# Altium footprint library DIODOS.PcbLib: 35 footprints (part 2 of 3)
Each footprint in its own frame and in the unit in brackets; x right, y up, seen from the top. Pads: shape width x height; smd on the part's side, far side on the other; paste and mask are expansions set on the pad; w line width, h text height; cw(c..) or ccw(c..) is an arc to the next point about the centre after c.
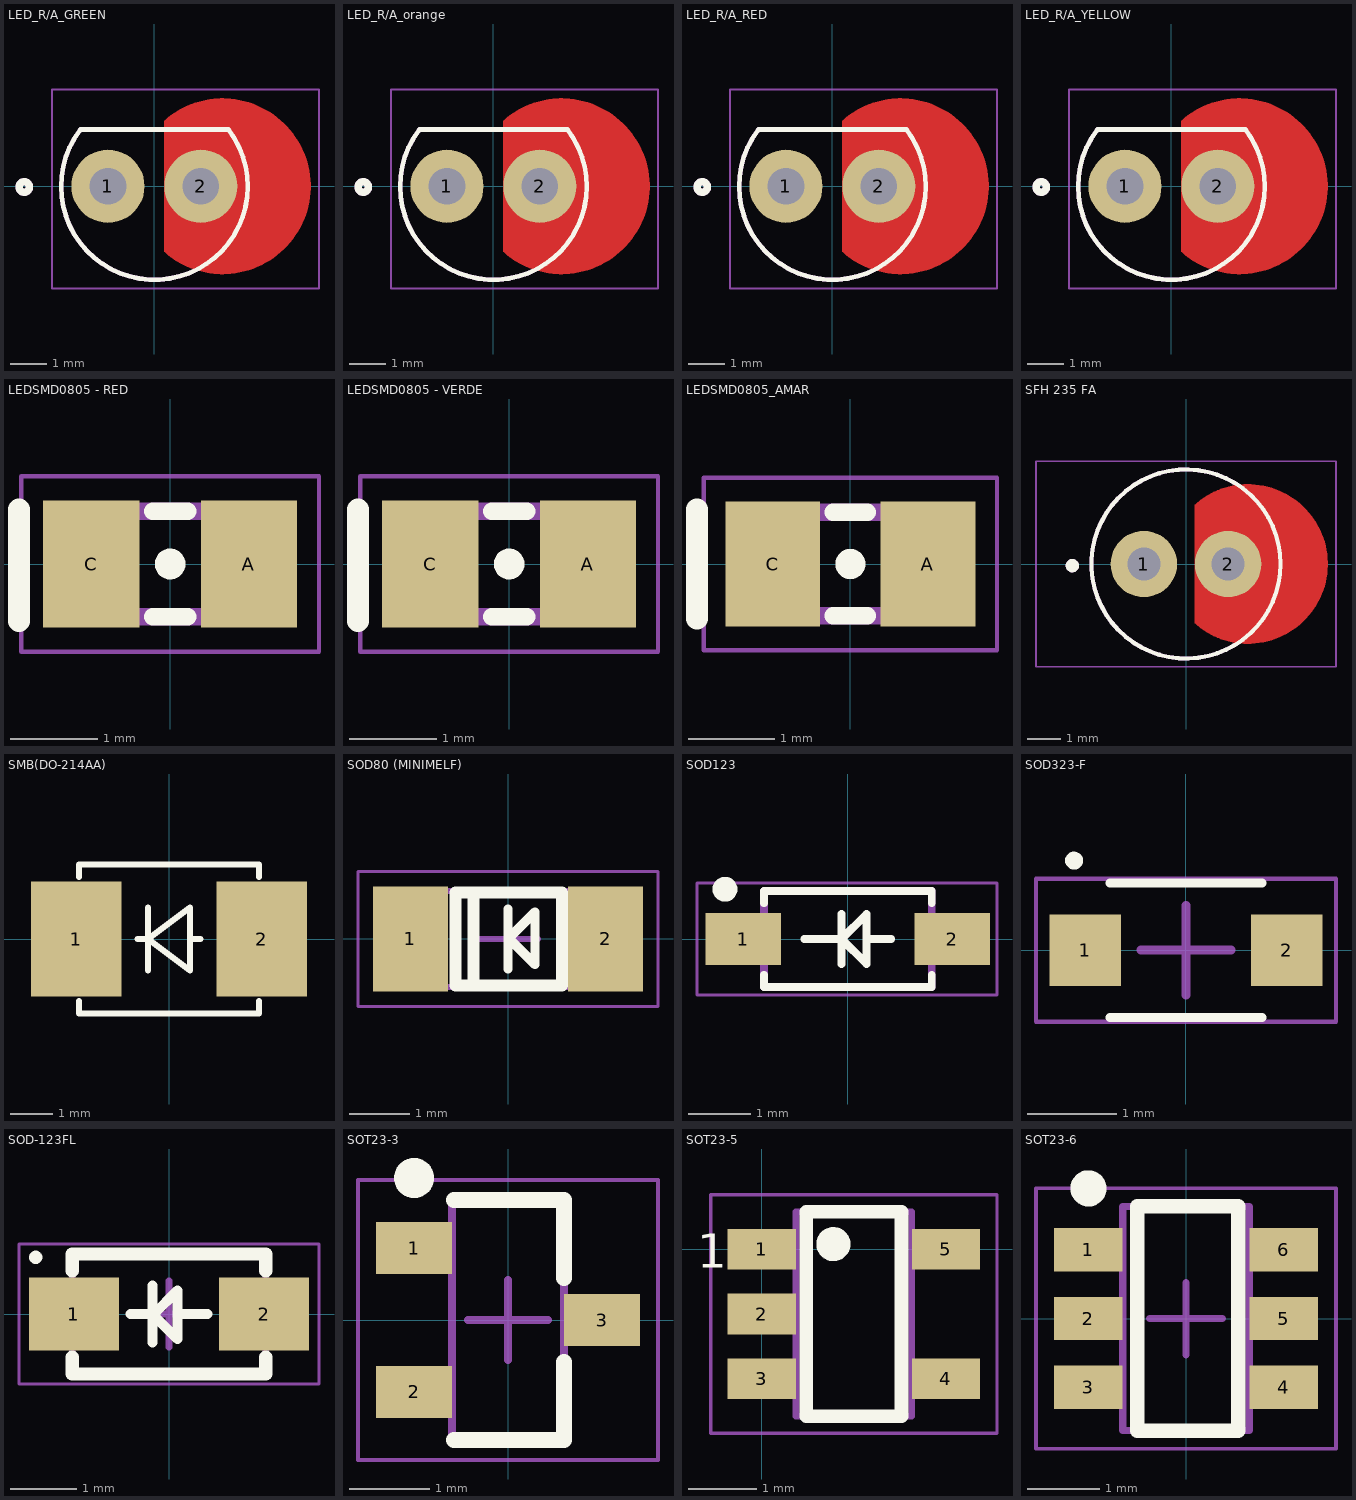
[diagram p1: the footprints below, top view; thin cyan lines are the x and y axes]

## LED_R/A_GREEN [mm]
pads (2):
  round 2 hole 1: 1(-1.27,0) 2(1.27,0)
Top Layer:
  region: 0.27,0.06 0.27,1.79 0.303,1.82 0.347,1.858 0.393,1.895 0.439,1.93 0.486,1.965 0.534,1.998 0.583,2.03 0.632,2.061 0.683,2.091 0.734,2.119 0.785,2.147 0.838,2.172 0.891,2.197 0.945,2.22 0.999,2.242 1.054,2.262 1.109,2.282 1.164,2.299 1.221,2.316 1.277,2.33 1.334,2.344 1.391,2.356 1.449,2.367 1.506,2.376 1.564,2.383 1.622,2.39 1.681,2.395 1.739,2.398 1.797,2.4 1.856,2.4 1.87,2.4 1.895,2.4 1.966,2.399 2.09,2.39 2.214,2.375 2.337,2.354 2.459,2.326 2.579,2.292 2.697,2.252 2.812,2.205 2.926,2.153 3.036,2.095 3.144,2.032 3.247,1.962 3.348,1.888 3.444,1.809 3.536,1.724 3.623,1.635 3.706,1.542 3.784,1.444 3.856,1.343 3.923,1.238 3.985,1.13 4.041,1.018 4.091,0.904 4.136,0.787 4.174,0.669 4.206,0.548 4.231,0.426 4.251,0.303 4.264,0.179 4.27,0.054 4.27,0 4.27,-0.054 4.264,-0.179 4.251,-0.303 4.231,-0.426 4.206,-0.548 4.174,-0.669 4.136,-0.787 4.091,-0.904 4.041,-1.018 3.985,-1.13 3.923,-1.238 3.856,-1.343 3.784,-1.444 3.706,-1.542 3.623,-1.635 3.536,-1.724 3.444,-1.809 3.348,-1.888 3.247,-1.962 3.144,-2.032 3.036,-2.095 2.926,-2.153 2.812,-2.205 2.697,-2.252 2.579,-2.292 2.459,-2.326 2.337,-2.354 2.214,-2.375 2.09,-2.39 1.966,-2.399 1.895,-2.4 1.795,-2.4 1.87,-2.4 1.856,-2.4 1.797,-2.4 1.739,-2.398 1.681,-2.395 1.622,-2.39 1.564,-2.383 1.506,-2.376 1.449,-2.367 1.391,-2.356 1.334,-2.344 1.277,-2.33 1.221,-2.316 1.164,-2.299 1.109,-2.282 1.054,-2.262 0.999,-2.242 0.945,-2.22 0.891,-2.197 0.838,-2.172 0.785,-2.147 0.734,-2.119 0.683,-2.091 0.632,-2.061 0.583,-2.03 0.534,-1.998 0.486,-1.965 0.439,-1.93 0.393,-1.895 0.347,-1.858 0.303,-1.82 0.27,-1.79
Top Overlay:
  circle w0.2: c-3.56,-0.02 r0.143
  lines w0.127: -2.038,1.532 ccw(c0,-0.004) 2.038,1.532 ; -2.025,1.55 2.025,1.55
Top Solder:
  circle w1: c-1.27,0 r0.5
  circle w1: c1.27,0 r0.5
Bottom Solder:
  circle w1: c1.27,0 r0.5
  circle w1: c-1.27,0 r0.5
Mechanical 13:
  circle w0.2: c-3.56,-0.02 r0.143
  circle w0.2: c-3.56,-0.02 r0.143
  region: 0.27,0.1 0.27,0 0.27,-0.1 0.29,-0.23 0.31,-0.31 0.37,-0.45
  region: 0.27,0.1 0.27,0 0.27,-0.1 0.29,-0.23 0.31,-0.31 0.37,-0.45
  lines w0.127: -2.038,1.532 ccw(c0,-0.004) 2.038,1.532 cw(c0,-0.004) -2.038,1.532 ; -2.025,1.55 2.025,1.55 -2.025,1.55
Mechanical 15:
  lines w0.05: -2.8,-2.8 -2.8,2.65 4.5,2.65 4.5,-2.8 -2.8,-2.8
3D body: height 9, standoff -4, extent -2.8,2.675 -2.8,2.675
3D body "LED 5mm, Green, Thru-hole, Right Angle PCB 1.stp": height 5.95, standoff -3.2, extent -3.124,-0.225 2.275,10.725

## LED_R/A_orange [mm]
pads (2):
  round 2 hole 1: 1(-1.27,0) 2(1.27,0)
Top Layer:
  region: 0.27,0.06 0.27,1.79 0.303,1.82 0.347,1.858 0.393,1.895 0.439,1.93 0.486,1.965 0.534,1.998 0.583,2.03 0.632,2.061 0.683,2.091 0.734,2.119 0.785,2.147 0.838,2.172 0.891,2.197 0.945,2.22 0.999,2.242 1.054,2.262 1.109,2.282 1.164,2.299 1.221,2.316 1.277,2.33 1.334,2.344 1.391,2.356 1.449,2.367 1.506,2.376 1.564,2.383 1.622,2.39 1.681,2.395 1.739,2.398 1.797,2.4 1.856,2.4 1.87,2.4 1.895,2.4 1.966,2.399 2.09,2.39 2.214,2.375 2.337,2.354 2.459,2.326 2.579,2.292 2.697,2.252 2.812,2.205 2.926,2.153 3.036,2.095 3.144,2.032 3.247,1.962 3.348,1.888 3.444,1.809 3.536,1.724 3.623,1.635 3.706,1.542 3.784,1.444 3.856,1.343 3.923,1.238 3.985,1.13 4.041,1.018 4.091,0.904 4.136,0.787 4.174,0.669 4.206,0.548 4.231,0.426 4.251,0.303 4.264,0.179 4.27,0.054 4.27,0 4.27,-0.054 4.264,-0.179 4.251,-0.303 4.231,-0.426 4.206,-0.548 4.174,-0.669 4.136,-0.787 4.091,-0.904 4.041,-1.018 3.985,-1.13 3.923,-1.238 3.856,-1.343 3.784,-1.444 3.706,-1.542 3.623,-1.635 3.536,-1.724 3.444,-1.809 3.348,-1.888 3.247,-1.962 3.144,-2.032 3.036,-2.095 2.926,-2.153 2.812,-2.205 2.697,-2.252 2.579,-2.292 2.459,-2.326 2.337,-2.354 2.214,-2.375 2.09,-2.39 1.966,-2.399 1.895,-2.4 1.795,-2.4 1.87,-2.4 1.856,-2.4 1.797,-2.4 1.739,-2.398 1.681,-2.395 1.622,-2.39 1.564,-2.383 1.506,-2.376 1.449,-2.367 1.391,-2.356 1.334,-2.344 1.277,-2.33 1.221,-2.316 1.164,-2.299 1.109,-2.282 1.054,-2.262 0.999,-2.242 0.945,-2.22 0.891,-2.197 0.838,-2.172 0.785,-2.147 0.734,-2.119 0.683,-2.091 0.632,-2.061 0.583,-2.03 0.534,-1.998 0.486,-1.965 0.439,-1.93 0.393,-1.895 0.347,-1.858 0.303,-1.82 0.27,-1.79
Top Overlay:
  circle w0.2: c-3.56,-0.02 r0.143
  lines w0.127: -2.038,1.532 ccw(c0,-0.004) 2.038,1.532 ; -2.025,1.55 2.025,1.55
Top Solder:
  circle w1: c1.27,0 r0.5
  circle w1: c-1.27,0 r0.5
Bottom Solder:
  circle w1: c-1.27,0 r0.5
  circle w1: c1.27,0 r0.5
Mechanical 13:
  circle w0.2: c-3.56,-0.02 r0.143
  circle w0.2: c-3.56,-0.02 r0.143
  region: 0.27,0.1 0.27,0 0.27,-0.1 0.29,-0.23 0.31,-0.31 0.37,-0.45
  region: 0.27,0.1 0.27,0 0.27,-0.1 0.29,-0.23 0.31,-0.31 0.37,-0.45
  lines w0.127: -2.038,1.532 ccw(c0,-0.004) 2.038,1.532 cw(c0,-0.004) -2.038,1.532 ; -2.025,1.55 2.025,1.55 -2.025,1.55
Mechanical 15:
  lines w0.05: -2.8,-2.8 4.5,-2.8 4.5,2.65 -2.8,2.65 -2.8,-2.8
3D body "LED 5mm, Orange, Thru-hole, Right Angle PCB 1.stp": height 5.95, standoff -3.2, extent -3.063,-0.225 2.337,10.725
3D body: height 9, standoff -4, extent -2.8,2.675 -2.8,2.675

## LED_R/A_RED [mm]
pads (2):
  round 2 hole 1: 1(-1.27,0) 2(1.27,0)
Top Layer:
  region: 0.27,0.06 0.27,1.79 0.303,1.82 0.347,1.858 0.393,1.895 0.439,1.93 0.486,1.965 0.534,1.998 0.583,2.03 0.632,2.061 0.683,2.091 0.734,2.119 0.785,2.147 0.838,2.172 0.891,2.197 0.945,2.22 0.999,2.242 1.054,2.262 1.109,2.282 1.164,2.299 1.221,2.316 1.277,2.33 1.334,2.344 1.391,2.356 1.449,2.367 1.506,2.376 1.564,2.383 1.622,2.39 1.681,2.395 1.739,2.398 1.797,2.4 1.856,2.4 1.87,2.4 1.895,2.4 1.966,2.399 2.09,2.39 2.214,2.375 2.337,2.354 2.459,2.326 2.579,2.292 2.697,2.252 2.812,2.205 2.926,2.153 3.036,2.095 3.144,2.032 3.247,1.962 3.348,1.888 3.444,1.809 3.536,1.724 3.623,1.635 3.706,1.542 3.784,1.444 3.856,1.343 3.923,1.238 3.985,1.13 4.041,1.018 4.091,0.904 4.136,0.787 4.174,0.669 4.206,0.548 4.231,0.426 4.251,0.303 4.264,0.179 4.27,0.054 4.27,0 4.27,-0.054 4.264,-0.179 4.251,-0.303 4.231,-0.426 4.206,-0.548 4.174,-0.669 4.136,-0.787 4.091,-0.904 4.041,-1.018 3.985,-1.13 3.923,-1.238 3.856,-1.343 3.784,-1.444 3.706,-1.542 3.623,-1.635 3.536,-1.724 3.444,-1.809 3.348,-1.888 3.247,-1.962 3.144,-2.032 3.036,-2.095 2.926,-2.153 2.812,-2.205 2.697,-2.252 2.579,-2.292 2.459,-2.326 2.337,-2.354 2.214,-2.375 2.09,-2.39 1.966,-2.399 1.895,-2.4 1.795,-2.4 1.87,-2.4 1.856,-2.4 1.797,-2.4 1.739,-2.398 1.681,-2.395 1.622,-2.39 1.564,-2.383 1.506,-2.376 1.449,-2.367 1.391,-2.356 1.334,-2.344 1.277,-2.33 1.221,-2.316 1.164,-2.299 1.109,-2.282 1.054,-2.262 0.999,-2.242 0.945,-2.22 0.891,-2.197 0.838,-2.172 0.785,-2.147 0.734,-2.119 0.683,-2.091 0.632,-2.061 0.583,-2.03 0.534,-1.998 0.486,-1.965 0.439,-1.93 0.393,-1.895 0.347,-1.858 0.303,-1.82 0.27,-1.79
Top Overlay:
  circle w0.2: c-3.56,-0.02 r0.143
  lines w0.127: -2.038,1.532 ccw(c0,-0.004) 2.038,1.532 ; -2.025,1.55 2.025,1.55
Top Solder:
  circle w1: c-1.27,0 r0.5
  circle w1: c1.27,0 r0.5
Bottom Solder:
  circle w1: c1.27,0 r0.5
  circle w1: c-1.27,0 r0.5
Mechanical 13:
  circle w0.2: c-3.56,-0.02 r0.143
  circle w0.2: c-3.56,-0.02 r0.143
  region: 0.27,0.1 0.27,0 0.27,-0.1 0.29,-0.23 0.31,-0.31 0.37,-0.45
  region: 0.27,0.1 0.27,0 0.27,-0.1 0.29,-0.23 0.31,-0.31 0.37,-0.45
  lines w0.127: -2.038,1.532 ccw(c0,-0.004) 2.038,1.532 cw(c0,-0.004) -2.038,1.532 ; -2.025,1.55 2.025,1.55 -2.025,1.55
Mechanical 15:
  lines w0.05: -2.8,-2.8 -2.8,2.65 4.5,2.65 4.5,-2.8 -2.8,-2.8
3D body: height 9, standoff -4, extent -2.8,2.675 -2.8,2.675
3D body "LED 5mm, Red, Thru-hole, Right Angle PCB 1.stp": height 5.95, standoff -3.2, extent -3,-0.225 2.4,10.725

## LED_R/A_YELLOW [mm]
pads (2):
  round 2 hole 1: 1(-1.27,0) 2(1.27,0)
Top Layer:
  region: 0.27,0.06 0.27,1.79 0.303,1.82 0.347,1.858 0.393,1.895 0.439,1.93 0.486,1.965 0.534,1.998 0.583,2.03 0.632,2.061 0.683,2.091 0.734,2.119 0.785,2.147 0.838,2.172 0.891,2.197 0.945,2.22 0.999,2.242 1.054,2.262 1.109,2.282 1.164,2.299 1.221,2.316 1.277,2.33 1.334,2.344 1.391,2.356 1.449,2.367 1.506,2.376 1.564,2.383 1.622,2.39 1.681,2.395 1.739,2.398 1.797,2.4 1.856,2.4 1.87,2.4 1.895,2.4 1.966,2.399 2.09,2.39 2.214,2.375 2.337,2.354 2.459,2.326 2.579,2.292 2.697,2.252 2.812,2.205 2.926,2.153 3.036,2.095 3.144,2.032 3.247,1.962 3.348,1.888 3.444,1.809 3.536,1.724 3.623,1.635 3.706,1.542 3.784,1.444 3.856,1.343 3.923,1.238 3.985,1.13 4.041,1.018 4.091,0.904 4.136,0.787 4.174,0.669 4.206,0.548 4.231,0.426 4.251,0.303 4.264,0.179 4.27,0.054 4.27,0 4.27,-0.054 4.264,-0.179 4.251,-0.303 4.231,-0.426 4.206,-0.548 4.174,-0.669 4.136,-0.787 4.091,-0.904 4.041,-1.018 3.985,-1.13 3.923,-1.238 3.856,-1.343 3.784,-1.444 3.706,-1.542 3.623,-1.635 3.536,-1.724 3.444,-1.809 3.348,-1.888 3.247,-1.962 3.144,-2.032 3.036,-2.095 2.926,-2.153 2.812,-2.205 2.697,-2.252 2.579,-2.292 2.459,-2.326 2.337,-2.354 2.214,-2.375 2.09,-2.39 1.966,-2.399 1.895,-2.4 1.795,-2.4 1.87,-2.4 1.856,-2.4 1.797,-2.4 1.739,-2.398 1.681,-2.395 1.622,-2.39 1.564,-2.383 1.506,-2.376 1.449,-2.367 1.391,-2.356 1.334,-2.344 1.277,-2.33 1.221,-2.316 1.164,-2.299 1.109,-2.282 1.054,-2.262 0.999,-2.242 0.945,-2.22 0.891,-2.197 0.838,-2.172 0.785,-2.147 0.734,-2.119 0.683,-2.091 0.632,-2.061 0.583,-2.03 0.534,-1.998 0.486,-1.965 0.439,-1.93 0.393,-1.895 0.347,-1.858 0.303,-1.82 0.27,-1.79
Top Overlay:
  circle w0.2: c-3.56,-0.02 r0.143
  lines w0.127: -2.038,1.532 ccw(c0,-0.004) 2.038,1.532 ; -2.025,1.55 2.025,1.55
Top Solder:
  circle w1: c1.27,0 r0.5
  circle w1: c-1.27,0 r0.5
Bottom Solder:
  circle w1: c-1.27,0 r0.5
  circle w1: c1.27,0 r0.5
Mechanical 13:
  circle w0.2: c-3.56,-0.02 r0.143
  circle w0.2: c-3.56,-0.02 r0.143
  region: 0.27,0.1 0.27,0 0.27,-0.1 0.29,-0.23 0.31,-0.31 0.37,-0.45
  region: 0.27,0.1 0.27,0 0.27,-0.1 0.29,-0.23 0.31,-0.31 0.37,-0.45
  lines w0.127: -2.038,1.532 ccw(c0,-0.004) 2.038,1.532 cw(c0,-0.004) -2.038,1.532 ; -2.025,1.55 2.025,1.55 -2.025,1.55
Mechanical 15:
  lines w0.05: -2.8,-2.8 4.5,-2.8 4.5,2.65 -2.8,2.65 -2.8,-2.8
3D body "LED 5mm, Yellow, Thru-hole, Right Angle PCB 1.stp": height 5.95, standoff -3.2, extent -3.124,-0.225 2.275,10.725
3D body: height 9, standoff -4, extent -2.8,2.675 -2.8,2.675

## LEDSMD0805 - RED [mm] "LED SMD0805 VERMELHO"
pads (2):
  rect 1.1x1.45 smd: A(0.9,0) C(-0.9,0)
Top Overlay:
  circle w0.2: c0,0 r0.075
  lines w0.2: -0.2,-0.6 0.2,-0.6 ; -0.2,0.6 0.2,0.6
  lines w0.25: -1.725,-0.65 -1.725,0.62
Mechanical 4:
  region: 0.5,0.6 1,0.6 1,-0.6 0.5,-0.6
  region: -1,0.6 -0.5,0.6 -0.5,-0.6 -1,-0.6
  region: 0.5,0.6 1,0.6 1,-0.6 0.5,-0.6
  region: -1,0.6 -0.5,0.6 -0.5,-0.6 -1,-0.6
  lines w0.2: -1,-0.6 -1,0.6 ; -1,-0.6 1,-0.6 ; -1,-0.6 -1,0.6 ; -1,-0.6 1,-0.6 ; -1,0.6 1,0.6 ; -1,0.6 1,0.6 ; 1,-0.6 1,0.6 ; 1,-0.6 1,0.6
Mechanical 16:
  lines w0.05: -1.7,-1 -1.7,1 1.7,1 1.7,-1 -1.7,-1
3D body "redCHIPLED-0805.STEP": height 0.92, standoff 0.01, extent -1.05,-0.675 1.05,0.675

## LEDSMD0805 - VERDE [mm] "LED SMD0805 VERDE"
pads (2):
  rect 1.1x1.45 smd: A(0.9,0) C(-0.9,0)
Top Overlay:
  circle w0.2: c0,0 r0.075
  lines w0.2: -0.2,-0.6 0.2,-0.6 ; -0.2,0.6 0.2,0.6
  lines w0.25: -1.725,-0.65 -1.725,0.62
Mechanical 4:
  region: -1,0.6 -0.5,0.6 -0.5,-0.6 -1,-0.6
  region: 0.5,0.6 1,0.6 1,-0.6 0.5,-0.6
  region: -1,0.6 -0.5,0.6 -0.5,-0.6 -1,-0.6
  region: 0.5,0.6 1,0.6 1,-0.6 0.5,-0.6
  lines w0.2: -1,-0.6 1,-0.6 ; -1,-0.6 -1,0.6 ; -1,-0.6 1,-0.6 ; -1,-0.6 -1,0.6 ; -1,0.6 1,0.6 ; -1,0.6 1,0.6 ; 1,-0.6 1,0.6 ; 1,-0.6 1,0.6
Mechanical 16:
  lines w0.05: -1.7,-1 1.7,-1 1.7,1 -1.7,1 -1.7,-1
3D body "User Library-User Library-led_0805 GRE.STEP": height 1.1, standoff 0, extent -1.01,-0.625 1.01,0.625

## LEDSMD0805_AMAR [mm] "LED SMD 0805 AMARELO"
pads (2):
  rect 1.1x1.45 smd: A(0.9,0) C(-0.9,0)
Top Overlay:
  circle w0.2: c0,0 r0.075
  lines w0.2: -0.2,-0.6 0.2,-0.6 ; -0.2,0.6 0.2,0.6
  lines w0.25: -1.778,-0.635 -1.778,0.635
Mechanical 4:
  region: -1,0.6 -0.5,0.6 -0.5,-0.6 -1,-0.6
  region: 0.5,0.6 1,0.6 1,-0.6 0.5,-0.6
  region: -1,0.6 -0.5,0.6 -0.5,-0.6 -1,-0.6
  region: 0.5,0.6 1,0.6 1,-0.6 0.5,-0.6
  lines w0.2: -1,-0.6 1,-0.6 ; -1,-0.6 -1,0.6 ; -1,-0.6 1,-0.6 ; -1,-0.6 -1,0.6 ; -1,0.6 1,0.6 ; -1,0.6 1,0.6 ; 1,-0.6 1,0.6 ; 1,-0.6 1,0.6
Mechanical 16:
  lines w0.05: -1.7,-1 1.7,-1 1.7,1 -1.7,1 -1.7,-1
3D body "ALSRobot-LED0805(Y).STEP": height 1.1, standoff 0, extent -1.01,-0.625 1.01,0.625

## SFH 235 FA [mm] "Fotodiodo 900nm 20ns 130 ° Radial / Faixa espectral 740nm ~ 1120nm / Tempo de resposta 20ns / Ângulo de visão 130 °Fotodiodo 900nm 20ns 130 ° Radial / Faixa espectral 740nm ~ 1120nm / Tempo de resposta 20ns / Ângulo de visão 130 °"
pads (2):
  round 2 hole 1: 1(-1.27,0) 2(1.27,0)
Top Layer:
  region: 0.27,1.79 0.303,1.82 0.347,1.858 0.393,1.895 0.439,1.93 0.486,1.965 0.534,1.998 0.583,2.03 0.632,2.061 0.683,2.091 0.734,2.119 0.785,2.147 0.838,2.172 0.891,2.197 0.945,2.22 0.999,2.242 1.054,2.262 1.109,2.282 1.164,2.299 1.221,2.316 1.277,2.33 1.334,2.344 1.391,2.356 1.449,2.367 1.506,2.376 1.564,2.383 1.622,2.39 1.681,2.395 1.739,2.398 1.797,2.4 1.856,2.4 1.87,2.4 1.895,2.4 1.966,2.399 2.09,2.39 2.214,2.375 2.337,2.354 2.459,2.326 2.579,2.292 2.697,2.252 2.812,2.205 2.926,2.153 3.036,2.095 3.144,2.032 3.247,1.962 3.348,1.888 3.444,1.809 3.536,1.724 3.623,1.635 3.706,1.542 3.784,1.444 3.856,1.343 3.923,1.238 3.985,1.13 4.041,1.018 4.091,0.904 4.136,0.787 4.174,0.669 4.206,0.548 4.231,0.426 4.251,0.303 4.264,0.179 4.27,0.054 4.27,0 4.27,-0.054 4.264,-0.179 4.251,-0.303 4.231,-0.426 4.206,-0.548 4.174,-0.669 4.136,-0.787 4.091,-0.904 4.041,-1.018 3.985,-1.13 3.923,-1.238 3.856,-1.343 3.784,-1.444 3.706,-1.542 3.623,-1.635 3.536,-1.724 3.444,-1.809 3.348,-1.888 3.247,-1.962 3.144,-2.032 3.036,-2.095 2.926,-2.153 2.812,-2.205 2.697,-2.252 2.579,-2.292 2.459,-2.326 2.337,-2.354 2.214,-2.375 2.09,-2.39 1.966,-2.399 1.895,-2.4 1.87,-2.4 1.856,-2.4 1.797,-2.4 1.739,-2.398 1.681,-2.395 1.622,-2.39 1.564,-2.383 1.506,-2.376 1.449,-2.367 1.391,-2.356 1.334,-2.344 1.277,-2.33 1.221,-2.316 1.164,-2.299 1.109,-2.282 1.054,-2.262 0.999,-2.242 0.945,-2.22 0.891,-2.197 0.838,-2.172 0.785,-2.147 0.734,-2.119 0.683,-2.091 0.632,-2.061 0.583,-2.03 0.534,-1.998 0.486,-1.965 0.439,-1.93 0.393,-1.895 0.347,-1.858 0.303,-1.82 0.27,-1.79
Top Overlay:
  circle w0.127: c0,0 r2.85
  circle w0.2: c-3.425,-0.05 r0.1
Top Solder:
  circle w1: c1.27,0 r0.5
  circle w1: c-1.27,0 r0.5
Bottom Solder:
  circle w1: c1.27,0 r0.5
  circle w1: c-1.27,0 r0.5
Mechanical 13:
  circle w0.127: c0,0 r2.85
  circle w0.2: c-3.425,-0.05 r0.1
  circle w0.127: c0,0 r2.85
  circle w0.2: c-3.425,-0.05 r0.1
Mechanical 16:
  lines w0.05: -4.52,-3.1 4.52,-3.1 4.52,3.1 -4.52,3.1 -4.52,-3.1
3D body "SFH 235 FA.STEP": height 7.8, standoff -19.5, extent -1.875,-1.925 1.67,1.872

## SMB(DO-214AA) [mm] "CASE 403A-03"
height 2.3
pads (2):
  rect 2.159x2.743 smd: 1(-2.21,0) 2(2.21,0)
Top Overlay:
  lines w0.15: -2.15,-1.48 -2.15,-1.78 2.15,-1.78 2.15,-1.48 ; -2.15,1.48 -2.15,1.78 2.15,1.78 2.15,1.48 ; -0.5,-0.75 -0.5,0.75 ; 0.5,0 0.75,0 ; -0.75,0 -0.75,0 ; -0.75,0 -0.5,0 ; -0.5,0 -0.5,0 ; -0.5,0 0.5,-0.75 0.5,0.75 -0.5,0 ; -0.5,0 -0.5,0
3D body "User Library-DO-214AA SMB.STEP": height 2.32, standoff 0.02, extent -2.7,-1.8 2.7,1.8

## SOD80 (MINIMELF) [mm] "MELF Diode, 2-Leads, Body 3,50x1,50mm, IPC Medium Density"
height 1.6
pads (2):
  rect 1.25x1.75 smd: 1(-1.625,0) 2(1.625,0)
Top Overlay:
  lines w0.15: 0,-0.5 0,0.5 ; 0,0 0.45,0.45 0.45,-0.425 0.025,0
  lines w0.2: -0.575,-0.775 -0.575,0.775 ; -0.875,-0.775 0.9,-0.775 0.9,0.775 -0.875,0.775 -0.875,-0.775
Mechanical 13:
  lines w0.1: -1.85,-0.8 -1.85,0.8 1.85,0.8 1.85,-0.8 -1.85,-0.8
Mechanical 15:
  lines w0.05: -2.5,-1.125 -2.5,1.125 2.5,1.125 2.5,-1.125 -2.5,-1.125
  lines w0.1: -0.5,0 0.5,0 ; 0,-0.5 0,0.5
3D body "SOD80 (MINIMELF).step": height 1.52, standoff 0.02, extent -1.75,-0.748 1.75,0.749

## SOD123 [mm] "SOD123, Surface Mount"
height 1.35
pads (2):
  rect 1.21x0.84 smd: 1(-1.68,0) 2(1.68,0)
Top Overlay:
  circle w0.2: c-1.975,0.8 r0.1
  lines w0.127: -1.35,-0.575 -1.35,-0.775 1.35,-0.775 1.35,-0.575 ; -1.35,0.575 -1.35,0.775 1.35,0.775 1.35,0.575 ; -0.7,0 -0.1,0 ; -0.1,-0.4 -0.1,0.4 ; 0.7,0 0.3,0 ; -0.1,0 0.3,-0.4 0.3,0 ; -0.1,0 0.3,0.4 0.3,0
Mechanical 4:
  lines w0.127: -1.35,-0.775 -1.35,0.775 ; -1.35,-0.775 1.35,-0.775 ; -1.35,-0.775 -1.35,0.775 ; -1.35,-0.775 1.35,-0.775 ; -1.35,0.775 1.35,0.775 ; -1.35,0.775 1.35,0.775 ; 1.35,-0.775 1.35,0.775 ; 1.35,-0.775 1.35,0.775
Mechanical 16:
  lines w0.05: -2.425,-0.9 2.4,-0.9 2.4,0.9 -2.425,0.9 -2.425,-0.9
3D body "CircuitWorks-SOD123.STEP": height 1.31, standoff 0.04, extent -1.85,-0.8 1.85,0.8

## SOD323-F [mm] "SOD323F, 2-Leads, Body 1,31x2,50mm, IPC Medium Density"
height 1
pads (2):
  rect 0.8x0.8 smd: 1(-1.125,0) 2(1.125,0)
Top Overlay:
  circle w0.1: c-1.25,1 r0.05
  lines w0.1: -0.85,-0.75 0.85,-0.75 ; -0.85,0.75 0.85,0.75
Mechanical 15:
  lines w0.05: -1.675,-0.8 1.675,-0.8 1.675,0.8 -1.675,0.8 -1.675,-0.8
  lines w0.1: -0.5,0 0.5,0 ; 0,-0.5 0,0.5
3D body "SODFL250X100-2N.step": height 1, standoff 0, extent -1.25,-0.655 1.25,0.655

## SOD-123FL [mm] "SODFL, 2-Leads, Body 1,65x3,60mm, IPC Medium Density"
height 0.95
pads (2):
  rect 1.35x1.1 smd: 1(-1.425,0) 2(1.425,0)
Top Overlay:
  circle w0.1: c-2,0.85 r0.05
  lines w0.15: -0.575,0 -0.25,0 0.125,-0.375 0.125,0.35 -0.225,0 ; -0.25,-0.425 -0.25,0.425 ; 0.125,0 0.575,0
  lines w0.2: -1.45,-0.65 -1.45,-0.9 1.45,-0.9 1.45,-0.65 ; -1.45,0.65 -1.45,0.9 1.45,0.9 1.45,0.65
Mechanical 13:
  lines w0.1: -1.45,-0.9 1.45,-0.9 1.45,0.9 -1.45,0.9 -1.45,-0.9
Mechanical 15:
  lines w0.05: -2.25,-1.05 2.25,-1.05 2.25,1.05 -2.25,1.05 -2.25,-1.05
  lines w0.1: -0.5,0 0.5,0 ; 0,-0.5 0,0.5
3D body "User Library-SOD-123FL.STEP": height 0.95, standoff 0.01, extent -1.793,-0.825 1.794,0.825

## SOT23-3 [mm] "SOT23, 3-Leads, Body 2,90x2,40mm, Pitch 0,90mm, IPC Medium Density"
height 1
pads (3):
  rect 0.95x0.65 smd: 1(-1.175,0.9) 2(-1.175,-0.9) 3(1.175,0)
Top Overlay:
  circle w0.25: c-1.175,1.775 r0.125
  lines w0.2: -0.675,-1.5 0.7,-1.5 0.7,-0.525 ; -0.675,1.5 0.7,1.5 0.7,0.525
Mechanical 13:
  lines w0.1: -0.7,-1.5 0.7,-1.5 0.7,1.5 -0.7,1.5 -0.7,-1.5
Mechanical 15:
  lines w0.05: -1.875,-1.75 1.875,-1.75 1.875,1.75 -1.875,1.75 -1.875,-1.75
  lines w0.1: -0.5,0 0.5,0 ; 0,-0.5 0,0.5
3D body "SOT23-3.step": height 1, standoff 0, extent -1.25,-1.5 1.25,1.5

## SOT23-5 [mm] "SOT23, 5-Leads, Body 2,90x2,80mm, Pitch 0,95mm, IPC Medium Density"
height 1.45
pads (5):
  rect 1x0.6 smd: 1(0,0) 2(0,-0.95) 3(0,-1.9) 4(2.7,-1.9) 5(2.7,0)
Top Overlay:
  circle w0.25: c1.05,0.075 r0.125
  lines w0.2: 0.65,-2.45 2.05,-2.45 2.05,0.55 0.65,0.55 0.65,-2.45
  text "1" at -0.95,-0.275 h0.5
Mechanical 13:
  lines w0.1: 0.5,-2.45 0.5,0.55 2.2,0.55 2.2,-2.45 0.5,-2.45
Mechanical 15:
  lines w0.05: -0.75,-2.7 -0.75,0.8 3.45,0.8 3.45,-2.7 -0.75,-2.7
3D body "SOT23-5.step": height 1.45, standoff 0, extent -0.15,-2.45 2.85,0.55

## SOT23-6 [mm] "SOT23, 6-Leads, Body 2,95x2,80mm, Pitch 0,95mm, IPC Medium Density"
height 1.45
pads (6):
  rect 0.95x0.6 smd: 1(-1.35,0.95) 2(-1.35,0) 3(-1.35,-0.95) 4(1.35,-0.95) 5(1.35,0) 6(1.35,0.95)
Top Overlay:
  circle w0.25: c-1.35,1.8 r0.125
  lines w0.2: -0.675,-1.55 -0.675,1.55 0.725,1.55 0.725,-1.55 -0.675,-1.55
Mechanical 13:
  lines w0.1: -0.875,-1.55 0.875,-1.55 0.875,1.55 -0.875,1.55 -0.875,-1.55
Mechanical 15:
  lines w0.05: -2.075,-1.8 2.075,-1.8 2.075,1.8 -2.075,1.8 -2.075,-1.8
  lines w0.1: -0.5,0 0.5,0 ; 0,-0.5 0,0.5
3D body "SOT23-6.step": height 1.45, standoff 0, extent -1.4,-1.55 1.4,1.55